# EAGLE library part PINHEAD_1X07 (library pinhead)
pinheader 7P
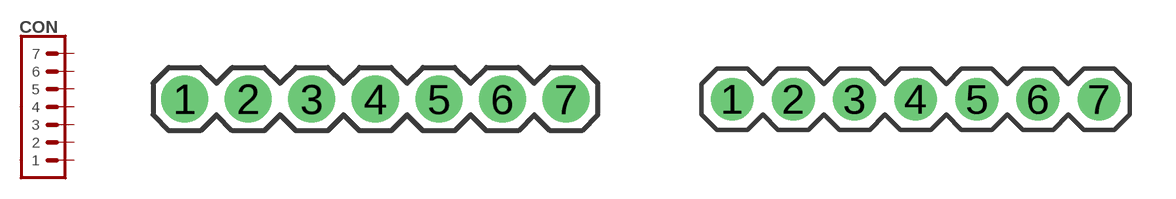
[diagram p6: symbol with the pads of 1X07-PTH-2.54; footprints 1X07-PTH-2.54, 1X07-PTH-2]

Designator prefix CON

## PINHEAD_1X07-2.54  [1X07-PTH-2.54]
1  1  pas
2  2  pas
3  3  pas
4  4  pas
5  5  pas
6  6  pas
7  7  pas

## PINHEAD_1X07-2  [1X07-PTH-2]
Pads as for 1X07-PTH-2.54

## Footprint 1X07-PTH-2.54 (pad centres in mm)
drill 1.016 pad 1.88: 1 -7.62,0; 2 -5.08,0; 3 -2.54,0; 4 0,0; 5 2.54,0; 6 5.08,0; 7 7.62,0

## Footprint 1X07-PTH-2 (pad centres in mm)
drill 0.8 pad 1.4: 1 -6,0; 2 -4,0; 3 -2,0; 4 0,0; 5 2,0; 6 4,0; 7 6,0